# EAGLE library part LTC3601MSE (library linear-technology)
Synchronous Step-Down Regulator 1.5A, 15V Monolithic
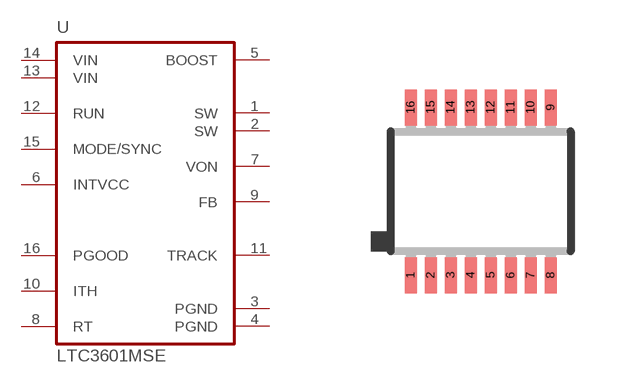
[diagram p47: symbol with the pads of MSOP16-MSE; footprint MSOP16-MSE]

Designator prefix U

## LTC3601MSE  [MSOP16-MSE]
1  SW  out
2  SW  out
3  PGND  pwr
4  PGND  pwr
5  BOOST  in
6  INTVCC  out
7  VON  in
8  RT  in
9  FB  in
10  ITH  in
11  TRACK  in
12  RUN  in
13  VIN  pwr
14  VIN  pwr
15  MODE/SYNC  in
16  PGOOD  oc

## Footprint MSOP16-MSE (pad centres in mm)
MSOP16-MSE
smd 0.3 x 0.9: 1 -1.75,-2.1; 2 -1.25,-2.1; 3 -0.75,-2.1; 4 -0.25,-2.1; 5 0.25,-2.1; 6 0.75,-2.1; 7 1.25,-2.1; 8 1.75,-2.1; 9 1.75,2.1; 10 1.25,2.1; 11 0.75,2.1; 12 0.25,2.1; 13 -0.25,2.1; 14 -0.75,2.1; 15 -1.25,2.1; 16 -1.75,2.1